# EAGLE library part USB-C (library firefly)
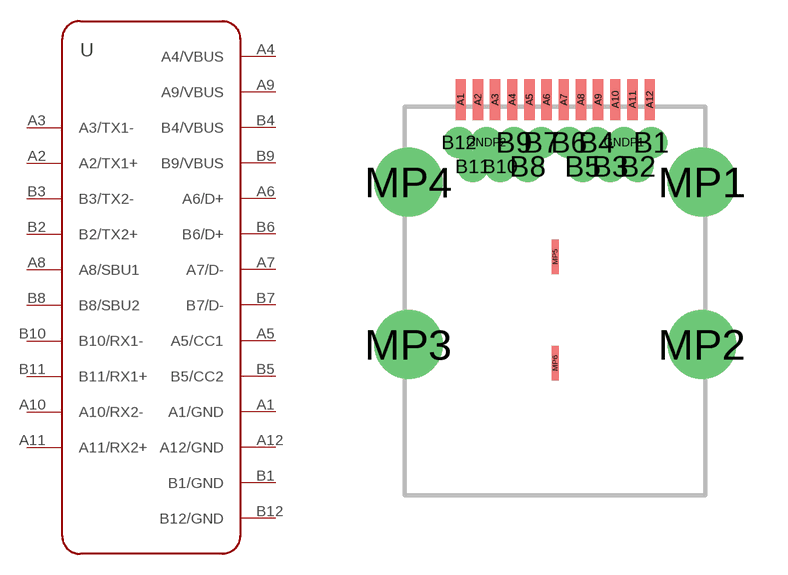
[diagram p33: symbol with the pads of AUSB1-DFN-PTR3; footprint AUSB1-DFN-PTR3]

Designator prefix -

## USB-CAUSB1-DFN-PTR3 (MANUFACTURER: Assmann WSW Components; ORDERING-CODE: AUSB1-DFN-PTR3)  [AUSB1-DFN-PTR3]
A1  A1/GND
A2  A2/TX1+
A3  A3/TX1-
A4  A4/VBUS
A5  A5/CC1
A6  A6/D+
A7  A7/D-
A8  A8/SBU1
A9  A9/VBUS
A10  A10/RX2-
A11  A11/RX2+
A12  A12/GND
B1  B1/GND
B2  B2/TX2+
B3  B3/TX2-
B4  B4/VBUS
B5  B5/CC2
B6  B6/D+
B7  B7/D-
B8  B8/SBU2
B9  B9/VBUS
B10  B10/RX1-
B11  B11/RX1+
B12  B12/GND

## Footprint AUSB1-DFN-PTR3 (pad centres in mm)
smd 0.3 x 1.2: A1 -2.75,10.58; A2 -2.25,10.58; A3 -1.75,10.58; A4 -1.25,10.58; A5 -0.75,10.58; A6 -0.25,10.58; A7 0.25,10.58; A8 0.75,10.58; A9 1.25,10.58; A10 1.75,10.58; A11 2.25,10.58; A12 2.75,10.58
drill 0.4 pad 0.65: B1 2.8,9.33; B2 2.4,8.63; B3 1.6,8.63; B4 1.2,9.33; B5 0.8,8.63; B6 0.4,9.33; B7 -0.4,9.33; B8 -0.8,8.63; B9 -1.2,9.33; B10 -1.6,8.63; B11 -2.4,8.63; B12 -2.8,9.33; GNDP1 2,9.33; GNDP2 -2,9.33
drill 1.2 pad 2: MP1 4.27,8.18; MP2 4.27,3.45; MP3 -4.27,3.45; MP4 -4.27,8.18
smd 0.2 x 1: MP5 0,6; MP6 0,2.9